# EAGLE library part HDMI-A (library harrison)
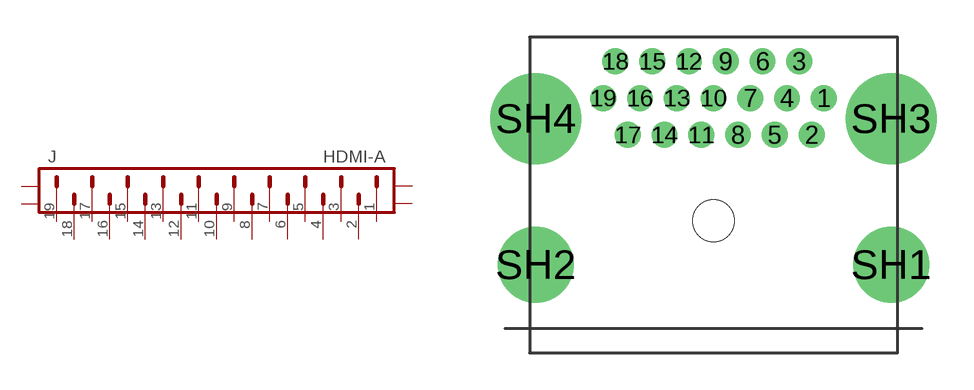
[diagram p66: symbol with the pads of HDMI_THRUHOLE; footprint HDMI_THRUHOLE]

Designator prefix J

## HDMI-A_THRU  [HDMI_THRUHOLE]
1  1  pas
2  2  pas
3  3  pas
4  4  pas
5  5  pas
6  6  pas
7  7  pas
8  8  pas
9  9  pas
10  10  pas
11  11  pas
12  12  pas
13  13  pas
14  14  pas
15  15  pas
16  16  pas
17  17  pas
18  18  pas
19  19  pas
SH1  SH1  pas
SH2  SH2  pas
SH3  SH3  pas
SH4  SH4  pas

## Footprint HDMI_THRUHOLE (pad centres in mm)
drill 0.55 pad 0.965: 1 4.5,5; 2 4,3.5; 3 3.5,6.5; 4 3,5; 5 2.5,3.5; 6 2,6.5; 7 1.5,5; 8 1,3.5; 9 0.5,6.5; 10 0,5; 11 -0.5,3.5; 12 -1,6.5; 13 -1.5,5; 14 -2,3.5; 15 -2.5,6.5; 16 -3,5; 17 -3.5,3.5; 18 -4,6.5; 19 -4.5,5
drill 2.1: SH1 7.25,-1.8; SH2 -7.25,-1.8
drill 2.7: SH3 7.25,4.16; SH4 -7.25,4.16
hole 1.7 at 0,0